# EAGLE library part V__VFD_FIP9AM9A (library ++Bedrahtet)
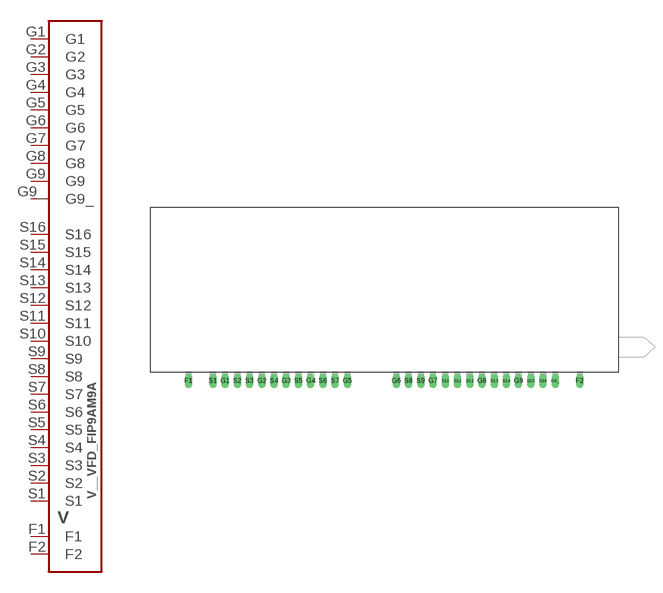
[diagram p62: symbol with the pads of VFD_FIP9AM9A; footprint VFD_FIP9AM9A]

Designator prefix V

## V__VFD_FIP9AM9A  [VFD_FIP9AM9A]
F1  F1
F2  F2
G1  G1
G2  G2
G3  G3
G4  G4
G5  G5
G6  G6
G7  G7
G8  G8
G9  G9
G9_  G9_
S1  S1
S2  S2
S3  S3
S4  S4
S5  S5
S6  S6
S7  S7
S8  S8
S9  S9
S10  S10
S11  S11
S12  S12
S13  S13
S14  S14
S15  S15
S16  S16

## Footprint VFD_FIP9AM9A (pad centres in mm)
drill 1 long: F1 0,0; F2 81.28,0; G1 7.62,0; G2 15.24,0; G3 20.32,0; G4 25.4,0; G5 33.02,0; G6 43.18,0; G7 50.8,0; G8 60.96,0; G9 68.58,0; G9_ 76.2,0; S1 5.08,0; S2 10.16,0; S3 12.7,0; S4 17.78,0; S5 22.86,0; S6 27.94,0; S7 30.48,0; S8 45.72,0; S9 48.26,0; S10 53.34,0; S11 55.88,0; S12 58.42,0; S13 63.5,0; S14 66.04,0; S15 71.12,0; S16 73.66,0